# EAGLE library part 403-5X050-5X (library con-ept-one27)
ept One27 male straight 50pins 1.27 mm pitch SMT Board-to-Board Connector System for parallel, horizontal and perpendicular PCB connections as well as cable-to-board connections. For mezzanine board-to-board connections from 8mm up to 13.8mm. Available with 12 to 80 pins. www.ept.de
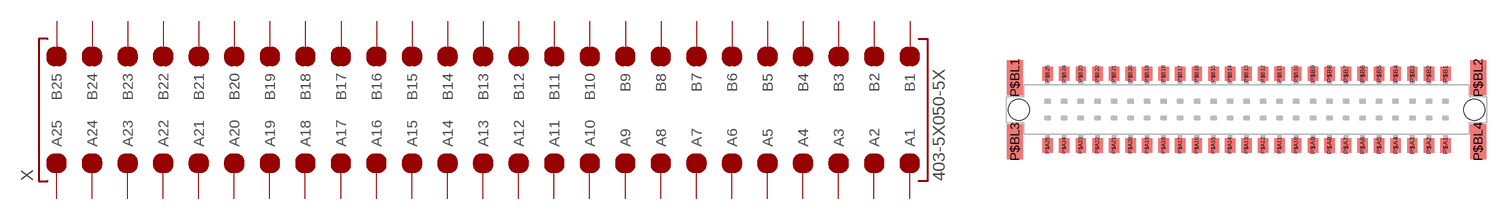
[diagram p6: symbol with the pads of 403-5X050-5X; footprint 403-5X050-5X]

Designator prefix X

## 403-5X050-5X  [403-5X050-5X]
P$A1  A1  pas
P$A2  A2  pas
P$A3  A3  pas
P$A4  A4  pas
P$A5  A5  pas
P$A6  A6  pas
P$A7  A7  pas
P$A8  A8  pas
P$A9  A9  pas
P$A10  A10  pas
P$A11  A11  pas
P$A12  A12  pas
P$A13  A13  pas
P$A14  A14  pas
P$A15  A15  pas
P$A16  A16  pas
P$A17  A17  pas
P$A18  A18  pas
P$A19  A19  pas
P$A20  A20  pas
P$A21  A21  pas
P$A22  A22  pas
P$A23  A23  pas
P$A24  A24  pas
P$A25  A25  pas
P$B1  B1  pas
P$B2  B2  pas
P$B3  B3  pas
P$B4  B4  pas
P$B5  B5  pas
P$B6  B6  pas
P$B7  B7  pas
P$B8  B8  pas
P$B9  B9  pas
P$B10  B10  pas
P$B11  B11  pas
P$B12  B12  pas
P$B13  B13  pas
P$B14  B14  pas
P$B15  B15  pas
P$B16  B16  pas
P$B17  B17  pas
P$B18  B18  pas
P$B19  B19  pas
P$B20  B20  pas
P$B21  B21  pas
P$B22  B22  pas
P$B23  B23  pas
P$B24  B24  pas
P$B25  B25  pas

## Footprint 403-5X050-5X (pad centres in mm)
ept One27 male straight 50pins 1.27 mm pitch SMT Board-to-Board Connector System for parallel, horizontal and perpendicular PCB connections as well as cable-to-board connections. For mezzanine board-to-board connections from 8mm up to 13.8mm. Available with 12 to 80 pins. www.ept.de
smd 0.8 x 1.1: P$A1 15.24,-2.75; P$A2 13.97,-2.75; P$A3 12.7,-2.75; P$A4 11.43,-2.75; P$A5 10.16,-2.75; P$A6 8.89,-2.75; P$A7 7.62,-2.75; P$A8 6.35,-2.75; P$A9 5.08,-2.75; P$A10 3.81,-2.75; P$A11 2.54,-2.75; P$A12 1.27,-2.75; P$A13 0,-2.75; P$A14 -1.27,-2.75; P$A15 -2.54,-2.75; P$A16 -3.81,-2.75; P$A17 -5.08,-2.75; P$A18 -6.35,-2.75; P$A19 -7.62,-2.75; P$A20 -8.89,-2.75; P$A21 -10.16,-2.75; P$A22 -11.43,-2.75; P$A23 -12.7,-2.75; P$A24 -13.97,-2.75; P$A25 -15.24,-2.75; P$B1 15.24,2.75; P$B2 13.97,2.75; P$B3 12.7,2.75; P$B4 11.43,2.75; P$B5 10.16,2.75; P$B6 8.89,2.75; P$B7 7.62,2.75; P$B8 6.35,2.75; P$B9 5.08,2.75; P$B10 3.81,2.75; P$B11 2.54,2.75; P$B12 1.27,2.75; P$B13 0,2.75; P$B14 -1.27,2.75; P$B15 -2.54,2.75; P$B16 -3.81,2.75; P$B17 -5.08,2.75; P$B18 -6.35,2.75; P$B19 -7.62,2.75; P$B20 -8.89,2.75; P$B21 -10.16,2.75; P$B22 -11.43,2.75; P$B23 -12.7,2.75; P$B24 -13.97,2.75; P$B25 -15.24,2.75
smd 1.2 x 2.7: P$BL1 -17.75,2.45; P$BL2 17.75,2.45; P$BL3 -17.75,-2.45; P$BL4 17.75,-2.45
hole 1.6 at -17.45,0
hole 1.6 at 17.45,0